# EAGLE library part RJ45-5520259-4 (library dpx-con-CUSTOM)
ModularJack,TopEntryPCBMount,8Pos.,RJ45 Source: Datasheet <https://componentsearchengine.com/Datasheets/1/5520259-4.pdf>
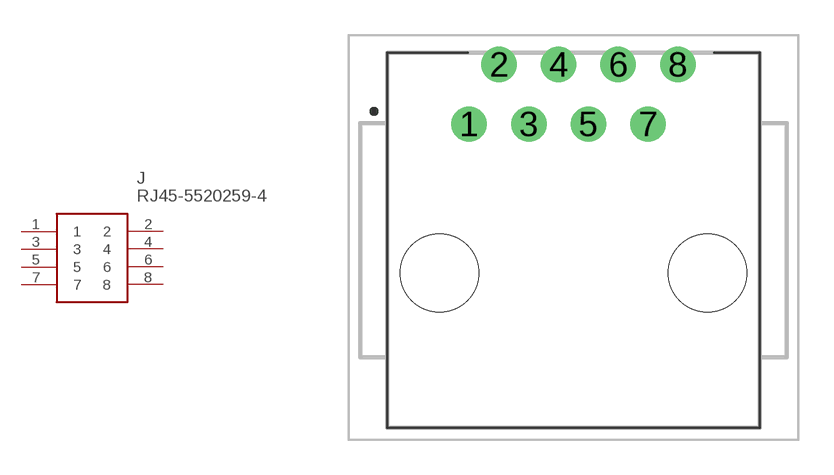
[diagram p17: symbol with the pads of RJ45-TE-55202594; footprint RJ45-TE-55202594]

Designator prefix J

## RJ45-5520259-4 (ARROW_PART_NUMBER: 5520259-4; ARROW_PRICE-STOCK: https://www.arrow.com/en/products/5520259-4/te-connectivity; DESCRIPTION: ModularJack,TopEntryPCBMount,8Pos.,RJ45; HEIGHT: 16.51mm; MANUFACTURER_NAME: TE Connectivity; MANUFACTURER_PART_NUMBER: 5520259-4; MOUSER_PART_NUMBER: 571-55202594; MOUSER_PRICE-STOCK: https://www.mouser.co.uk/ProductDetail/TE-Connectivity-AMP/5520259-4?qs=CWN9I2qbSLvZ02We%252Bb9ZrA%3D%3D)  [RJ45-TE-55202594]
1  1
2  2
3  3
4  4
5  5
6  6
7  7
8  8

## Footprint RJ45-TE-55202594 (pad centres in mm)
5520259-4-3
drill 0.97 pad 1.509: 1 0,0; 2 1.27,2.54; 3 2.54,0; 4 3.81,2.54; 5 5.08,0; 6 6.35,2.54; 7 7.62,0; 8 8.89,2.54
hole 3.33 at -1.27,-6.35
hole 3.33 at 10.16,-6.35